# Altium schematic symbol library Components - 23.07.26 - 00.07.SchLib: 1 symbol
Pins are listed as number, name and electrical type; pins without a type are passive.

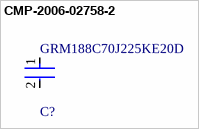
[diagram p0: symbol CMP-2006-02758-2]

## CMP-2006-02758-2
designator C?, comment GRM188C70J225KE20D
Chip Multilayer Ceramic Capacitors for General Purpose, 0603, 2.2uF, X7S, 22%, 10%, 6.3V; Thickness: 0.035inch; Length: 1.6mm; Packaging: Tape and Reel; Tolerance: 10%; Number of Pins: 2; Depth: 0.8mm; Voltage Rating: 6.3V; Voltage Rating (DC): 6.3V; Lead Pitch: 0.5mm; Dielectric: X7S; Case Code (Imperial): 0603; Weight: 7.1E-05oz; Min Operating Temperature: -55°C; Width: 0.031inch; Termination: SMD/SMT; Height: 0.8mm; REACH SVHC: No SVHC; Radiation Hardening: No; Case Code (Metric): 1608; Mount: Surface Mount; Package Quantity: 4000; Max Operating Temperature: 125°C; Case/Package: 0603; Capacitance: 2.2uF
footprint FP-GRM188-0_1-e0_2_0_5-IPC_A
footprint FP-GRM188-0_1-e0_2_0_5-IPC_B
footprint FP-GRM188-0_1-e0_2_0_5-MFG
footprint FP-GRM188-0_1-e0_2_0_5-IPC_C
pins: 1, 2